# Altium schematic symbol library IRF_2NMOS.SchLib: 1 symbol
Pins are listed as number, name and electrical type; pins without a type are passive.

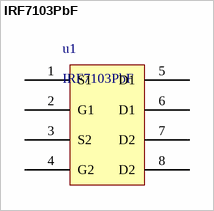
[diagram p0: symbol IRF7103PbF]

## IRF7103PbF
designator u1
pins: 1 S1, 2 G1, 3 S2, 4 G2, 5 D1, 6 D1, 7 D2, 8 D2